# EAGLE library part NCP705MT18TCG (library onsemi)
Fixed LDO regulator, 1.8V
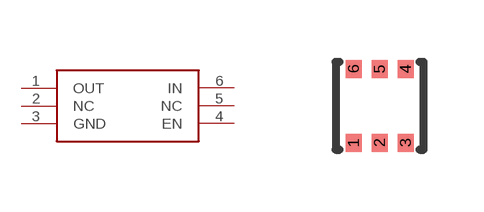
[diagram p0: symbol with the pads of CASE_511BR; footprint CASE_511BR]

Designator prefix -

## NCP705MT18TCG (MFN: NCP705MT18TCG)  [CASE_511BR]
1  OUT  pwr
2  NC  nc
3  GND  pwr
4  EN  in
5  NC  nc
6  IN  pwr

## Footprint CASE_511BR (pad centres in mm)
smd 0.4 x 0.45: 1 -0.65,-0.925; 2 0,-0.925; 3 0.65,-0.925; 4 0.65,0.925; 5 0,0.925; 6 -0.65,0.925